# Altium schematic symbol library pwr_reg_linear_1117.SchLib: 4 symbols
Pins are listed as number, name and electrical type; pins without a type are passive.

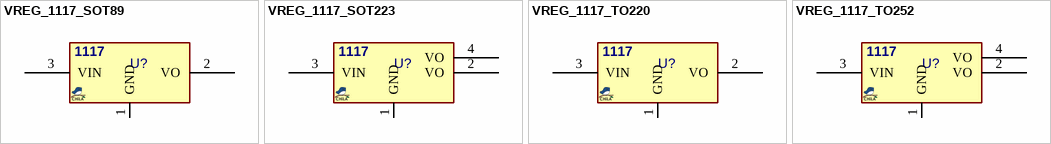
[diagram p0: symbols VREG_1117_SOT89 to VREG_1117_TO252]

## VREG_1117_SOT89
designator U?, comment LD1117  (value not drawn)
REG, Linear, LDO1V, 0.8A, SOT-89; MANF_P#: AZ1117; MANF: DIODES; PARAM2: 1.2/1.5/1.8/2.5/2.85/3.3/5V; PARAM: LDO1V, 0.8A; VALUE: LD1117
footprint SOT89_3 (SOT89, SOT-89, SBF-4089, SOT89A, GALI, SC-62, DF782, TO-243AA(JEDEC))
pins: 1 GND, 2 VO, 3 VIN
text: 1117

## VREG_1117_SOT223
designator U?, comment LD1117  (value not drawn)
REG, Linear, LDO1V, 0.8A, SOT-223; MANF_P#: LD1117, LM1117, AMS1117, TLV1117, REG1117, NCP1117, LT1117, SPX1117; MANF: TI, ON, ST; PARAM2: 1.2/1.5/1.8/2.5/2.85/3.3/5V; PARAM: LDO1V, 0.8A; VALUE: LD1117
footprint SOT223_4 (SOT223, 4-Leads, Body 6.5x3.5mm, Pitch 2.30mm)
pins: 1 GND, 2 VO, 3 VIN, 4 VO
text: 1117

## VREG_1117_TO220
designator U?, comment LD1117  (value not drawn)
REG, Linear, LDO1V, 0.8A, TO-220; MANF_P#: LM1117T-2.5/NOPB; MANF: TI; PARAM2: 2.5V; PARAM: LDO1V, 0.8A; PRICE: 1.5$; VALUE: LD1117
footprint TO220_3 (TO-220 3 LEAD, TO-262, pitch: 2.54mm  10x4.5mm)
pins: 1 GND, 2 VO, 3 VIN
text: 1117

## VREG_1117_TO252
designator U?, comment LD1117  (value not drawn)
REG, Linear, LDO1V, 0.8A, TO-252; MANF_P#: LM1117, LD1117, NCV1117; MANF: TI, ON, ST; PARAM2: 1.2/1.5/1.8/2.5/2.85/3.3/5V; PARAM: LDO1V, 0.8A; VALUE: LD1117
footprint DPAK_3 (D-PAK (TO-252), 3-Pads, Body 6.2x6.7mm)
pins: 1 GND, 2 VO, 3 VIN, 4 VO
text: 1117